# EAGLE library part LCD_MODULE (library _mtvl.display)
Character LCD module
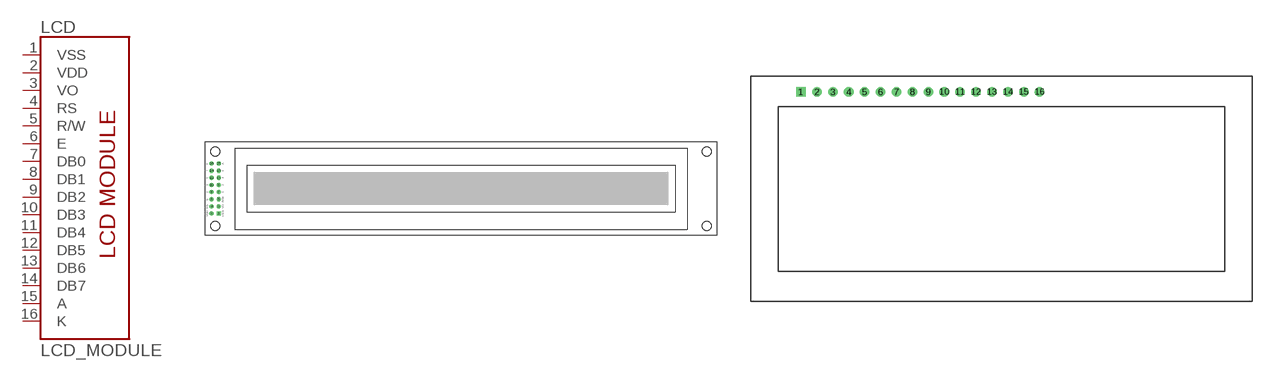
[diagram p11: symbol with the pads of LCD_MODULE_2X40; footprints LCD_MODULE_2X40, LCD_MODULE_2X16]

Designator prefix LCD

## LCD_MODULE40X2  [LCD_MODULE_2X40]
1  VSS  pwr
2  VDD  pwr
3  VO
4  RS  in
5  R/W  in
6  E  in
7  DB0
8  DB1
9  DB2
10  DB3
11  DB4
12  DB5
13  DB6
14  DB7
15  A  pwr
16  K  pwr

## LCD_MODULE16X2  [LCD_MODULE_2X16]
Pads as for LCD_MODULE_2X40

## LCD_MODULE8X2  [LCD_MODULE_2X08]
1  VSS  pwr
2  VDD  pwr
3  VO
4  RS  in
5  R/W  in
6  E  in
7  DB0
8  DB1
9  DB2
10  DB3
11  DB4
12  DB5
13  DB6
14  DB7
15  K  pwr
16  A  pwr
17  A  pwr
18  A  pwr
19  K  pwr
20  K  pwr
21  A  pwr
22  K  pwr

## LCD_MODULE-YB802B  [YB0802B]
1  VSS  pwr
2  VDD  pwr
3  VO
4  RS  in
5  R/W  in
6  E  in
7  DB0
8  DB1
9  DB2
10  DB3
11  DB4
12  DB5
13  DB6
14  DB7
15  A  pwr
16  K  pwr
MNT1  VSS  pwr
MNT2  VSS  pwr
MNT3  VSS  pwr
MNT4  VSS  pwr

## LCD_MODULE_WH1604A  [WINSTAR_WH1604A]
Pads as for YB0802B

## Footprint LCD_MODULE_2X40 (pad centres in mm)
40x2 Character LCD Display
drill 1 square: 1 -86.23,-8.89
drill 1 octagon: 2 -88.77,-8.89; 3 -86.23,-6.35; 4 -88.77,-6.35; 5 -86.23,-3.81; 6 -88.77,-3.81; 7 -86.23,-1.27; 8 -88.77,-1.27; 9 -86.23,1.27; 10 -88.77,1.27; 11 -86.23,3.81; 12 -88.77,3.81; 13 -86.23,6.35; 14 -88.77,6.35; 15 -86.23,8.89; 16 -88.77,8.89
hole 3.2 at -87.5,-13.25
hole 3.2 at 87.5,-13.25
hole 3.2 at 87.5,13.25
hole 3.2 at -87.5,13.25

## Footprint LCD_MODULE_2X16 (pad centres in mm)
drill 1.016 square: 1 -29.46,14.23
drill 1.016: 2 -26.92,14.23; 3 -24.38,14.23; 4 -21.84,14.23; 5 -19.3,14.23; 6 -16.76,14.23; 7 -14.22,14.23; 8 -11.68,14.23; 9 -9.14,14.23; 10 -6.6,14.23; 11 -4.06,14.23; 12 -1.52,14.23; 13 1.02,14.23; 14 3.56,14.23; 15 6.1,14.23; 16 8.64,14.23

## Footprint LCD_MODULE_2X08 (pad centres in mm)
8X2 character LCD module https://www.buydisplay.com/5v-or-3-3v-i2c-arduino-display-8x2-802-character-lcd-module-display
drill 1.016 octagon: 1 -24.71,-7.62; 2 -27.25,-7.62; 3 -24.71,-5.08; 4 -27.25,-5.08; 5 -24.71,-2.54; 6 -27.25,-2.54; 7 -24.71,0; 8 -27.25,0; 9 -24.71,2.54; 10 -27.25,2.54; 11 -24.71,5.08; 12 -27.25,5.08; 13 -24.71,7.62; 14 -27.25,7.62; 15 -24.71,-10.16; 16 -27.25,-10.16
drill 1.016: 17 26.5,6.5; 18 28,2.5; 19 28,-2.5; 20 26.5,-6.5; 21 28,7.5; 22 28,-7.5
hole 2.8 at -26.5,-13.5
hole 2.8 at -26.5,13.5
hole 2.8 at 26.5,13.5
hole 2.8 at 26.5,-13.5

## Footprint YB0802B (pad centres in mm)
YB0802B SLWBBA/5V 8X2 character LCD module http://www.yab-lcm.net/uploadfile/2019/1227/20191227021936744.pdf
drill 1.016 octagon: 1 -24.31,-8.89; 2 -26.85,-8.89; 3 -24.31,-6.35; 4 -26.85,-6.35; 5 -24.31,-3.81; 6 -26.85,-3.81; 7 -24.31,-1.27; 8 -26.85,-1.27; 9 -24.31,1.27; 10 -26.85,1.27; 11 -24.31,3.81; 12 -26.85,3.81; 13 -24.31,6.35; 14 -26.85,6.35; 15 -24.31,8.89; 16 -26.85,8.89
drill 3: MNT1 -26.5,-13.5; MNT2 26.5,-13.5; MNT3 26.5,13.5; MNT4 -26.5,13.5

## Footprint WINSTAR_WH1604A (pad centres in mm)
Winstar WH1604A Character 16x4
drill 1 octagon: 1 -33.5,27.5; 2 -30.96,27.5; 3 -28.42,27.5; 4 -25.88,27.5; 5 -23.34,27.5; 6 -20.8,27.5; 7 -18.26,27.5; 8 -15.72,27.5; 9 -13.18,27.5; 10 -10.64,27.5; 11 -8.1,27.5; 12 -5.56,27.5; 13 -3.02,27.5; 14 -0.48,27.5; 15 2.06,27.5; 16 4.6,27.5
drill 2.5 pad 5: MNT1 -41,-27.5; MNT2 41,-27.5; MNT3 41,27.5; MNT4 -41,27.5